# EAGLE library part MSOP-8 (library custom)
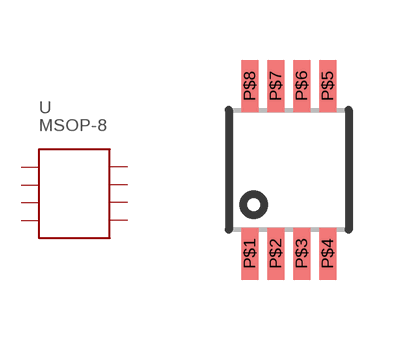
[diagram p46: symbol with the pads of 8-MSOP; footprint 8-MSOP]

Designator prefix U

## MSOP-8  [8-MSOP]
P$1  P$1
P$2  P$2
P$3  P$3
P$4  P$4
P$5  P$5
P$6  P$6
P$7  P$7
P$8  P$8

## Footprint 8-MSOP (pad centres in mm)
smd 0.425 x 1.3: P$1 -0.975,-2.1; P$2 -0.325,-2.1; P$3 0.325,-2.1; P$4 0.975,-2.1; P$5 0.975,2.1; P$6 0.325,2.1; P$7 -0.325,2.1; P$8 -0.975,2.1